# Altium footprint library CONN-SMD_X2016WRS-08-9TSW_2021-08-20.PcbLib: 1 footprints
Each footprint in its own frame and in the unit in brackets; x right, y up, seen from the top. Pads: shape width x height; smd on the part's side, far side on the other; paste and mask are expansions set on the pad; w line width, h text height; cw(c..) or ccw(c..) is an arc to the next point about the centre after c.
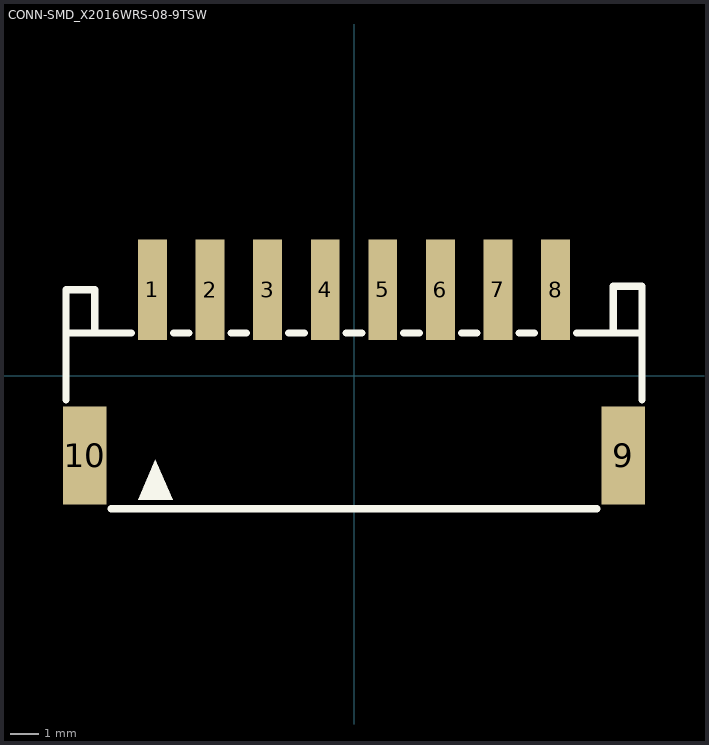
[diagram p0: the footprint, top view; thin cyan lines are the x and y axes]

## CONN-SMD_X2016WRS-08-9TSW [mm]
pads (10):
  rect 1x3.5 smd: 1(-7,2.988) 2(-5,2.988) 3(-3,2.988) 4(-1,2.988) 5(1,2.988) 6(3,2.988) 7(5,2.988) 8(7,2.988)
  rect 1.5x3.4 smd: 9(9.35,-2.761) 10(-9.35,-2.761)
Top Overlay:
  region: -7.5,-4.312 -6.3,-4.312 -6.9,-2.912 -6.9,-2.911
  lines w0.254: -10,-0.83 -10,1.488 ; -9,1.488 -9,2.988 -10,2.988 -10,1.488 ; -8.425,-4.611 8.425,-4.611 ; -7.731,1.488 -10,1.488 ; -6.269,1.488 -5.731,1.488 ; -4.269,1.488 -3.731,1.488 ; -2.269,1.488 -1.731,1.488 ; -0.269,1.488 0.269,1.488 ; 1.731,1.488 2.269,1.488 ; 3.731,1.488 4.269,1.488 ; 5.731,1.488 6.269,1.488 ; 7.731,1.488 10,1.488 ; 9,1.488 9,3.113 10,3.113 10,1.488 ; 10,-0.83 10,1.488